# Altium footprint library SMD Resistors.PcbLib: 5 footprints
Each footprint in its own frame and in the unit in brackets; x right, y up, seen from the top. Pads: shape width x height; smd on the part's side, far side on the other; paste and mask are expansions set on the pad; w line width, h text height; cw(c..) or ccw(c..) is an arc to the next point about the centre after c.
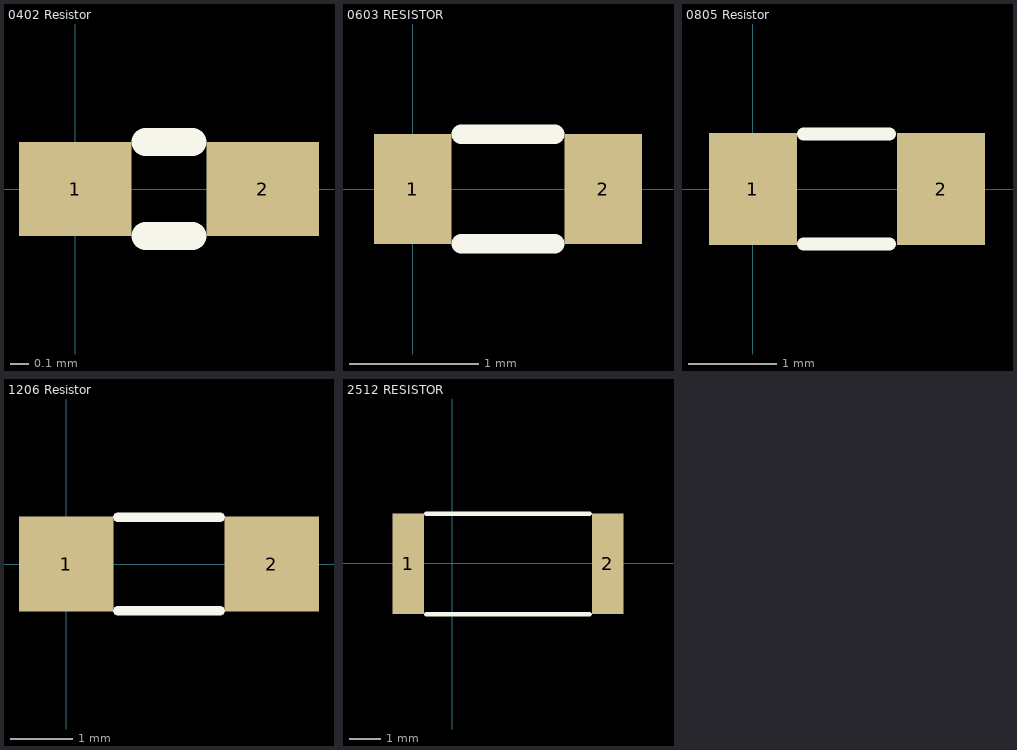
[diagram p0: the footprints below, top view; thin cyan lines are the x and y axes]

## 0402 Resistor [mm]
pads (2):
  rect 0.6x0.5 smd: 1(0,0) 2(1,0)
Top Overlay:
  lines w0.15: 0.375,-0.25 0.625,-0.25 ; 0.375,0.25 0.625,0.25
3D body: height 0.35, standoff 0, extent 0,-0.25 1,0.25

## 0603 RESISTOR [mm]
pads (2):
  rect 0.6x0.85 smd: 1(0,0) 2(1.475,0)
Top Overlay:
  lines w0.15: 0.375,-0.425 1.1,-0.425 ; 0.375,0.425 1.1,0.425
3D body: height 0.45, standoff 0, extent -0.05,-0.425 1.5,0.425

## 0805 Resistor [mil]
pads (2):
  rect 39.37x50 smd: 1(0,0) 2(84,0)
Top Overlay:
  lines w5.91: 22.64,-24.61 61.02,-24.61 ; 22.64,24.61 61.02,24.61
3D body: height 17.76, standoff 0, extent 0.63,-24.6 79.37,24.61

## 1206 Resistor [mil]
pads (2):
  rect 60x60 smd: 1(0,0) 2(130,0)
Top Overlay:
  lines w5.91: 32.48,-29.53 97.44,-29.53 ; 32.48,29.53 97.44,29.53
3D body: height 21.69, standoff 0, extent 2.01,-31.49 128,31.51

## 2512 RESISTOR [mm]
pads (2):
  rect 1x3.2 smd: 1(-1.397,-0.024) 2(4.953,-0.024)
Top Overlay:
  lines w0.15: -0.825,-1.625 4.375,-1.625 ; -0.825,1.575 4.375,1.575
3D body: height 1.6, standoff 0, extent -1.375,-1.5 4.975,1.5